# Altium footprint library Indicators.PcbLib: 1 footprints
Each footprint in its own frame and in the unit in brackets; x right, y up, seen from the top. Pads: shape width x height; smd on the part's side, far side on the other; paste and mask are expansions set on the pad; w line width, h text height; cw(c..) or ccw(c..) is an arc to the next point about the centre after c.
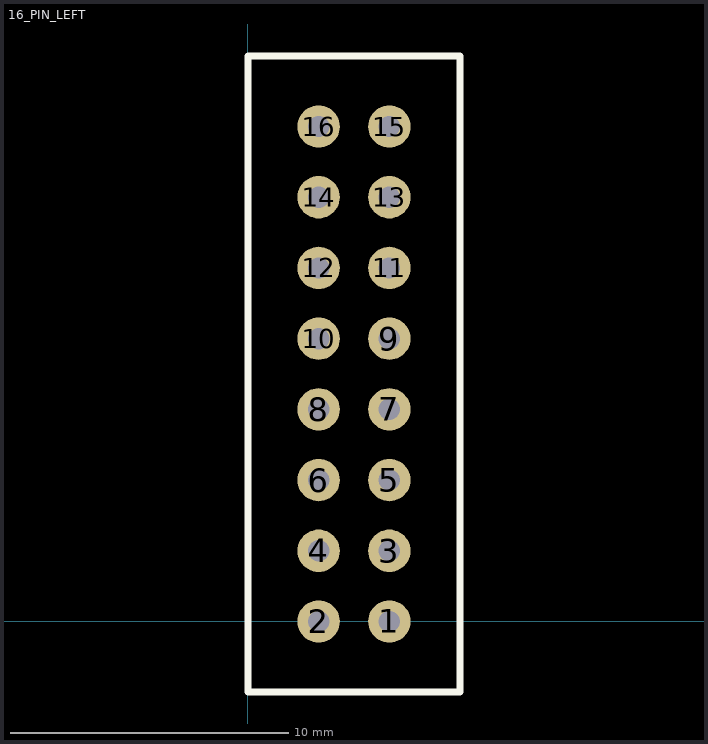
[diagram p0: the footprint, top view; thin cyan lines are the x and y axes]

## 16_PIN_LEFT [mil]
pads (16):
  round 60 hole 30: 1(200,0) 2(100,0) 3(200,100) 4(100,100) 5(200,200) 6(100,200) 7(200,300) 8(100,300) 9(200,400) 10(100,400) 11(200,500) 12(100,500) 13(200,600) 14(100,600) 15(200,700) 16(100,700)
Top Overlay:
  lines w10: 0,-100 300,-100 300,800 0,800 0,-100